# Altium integrated library Xilinx Spartan-II.IntLib: 120 symbols (part 12 of 15)
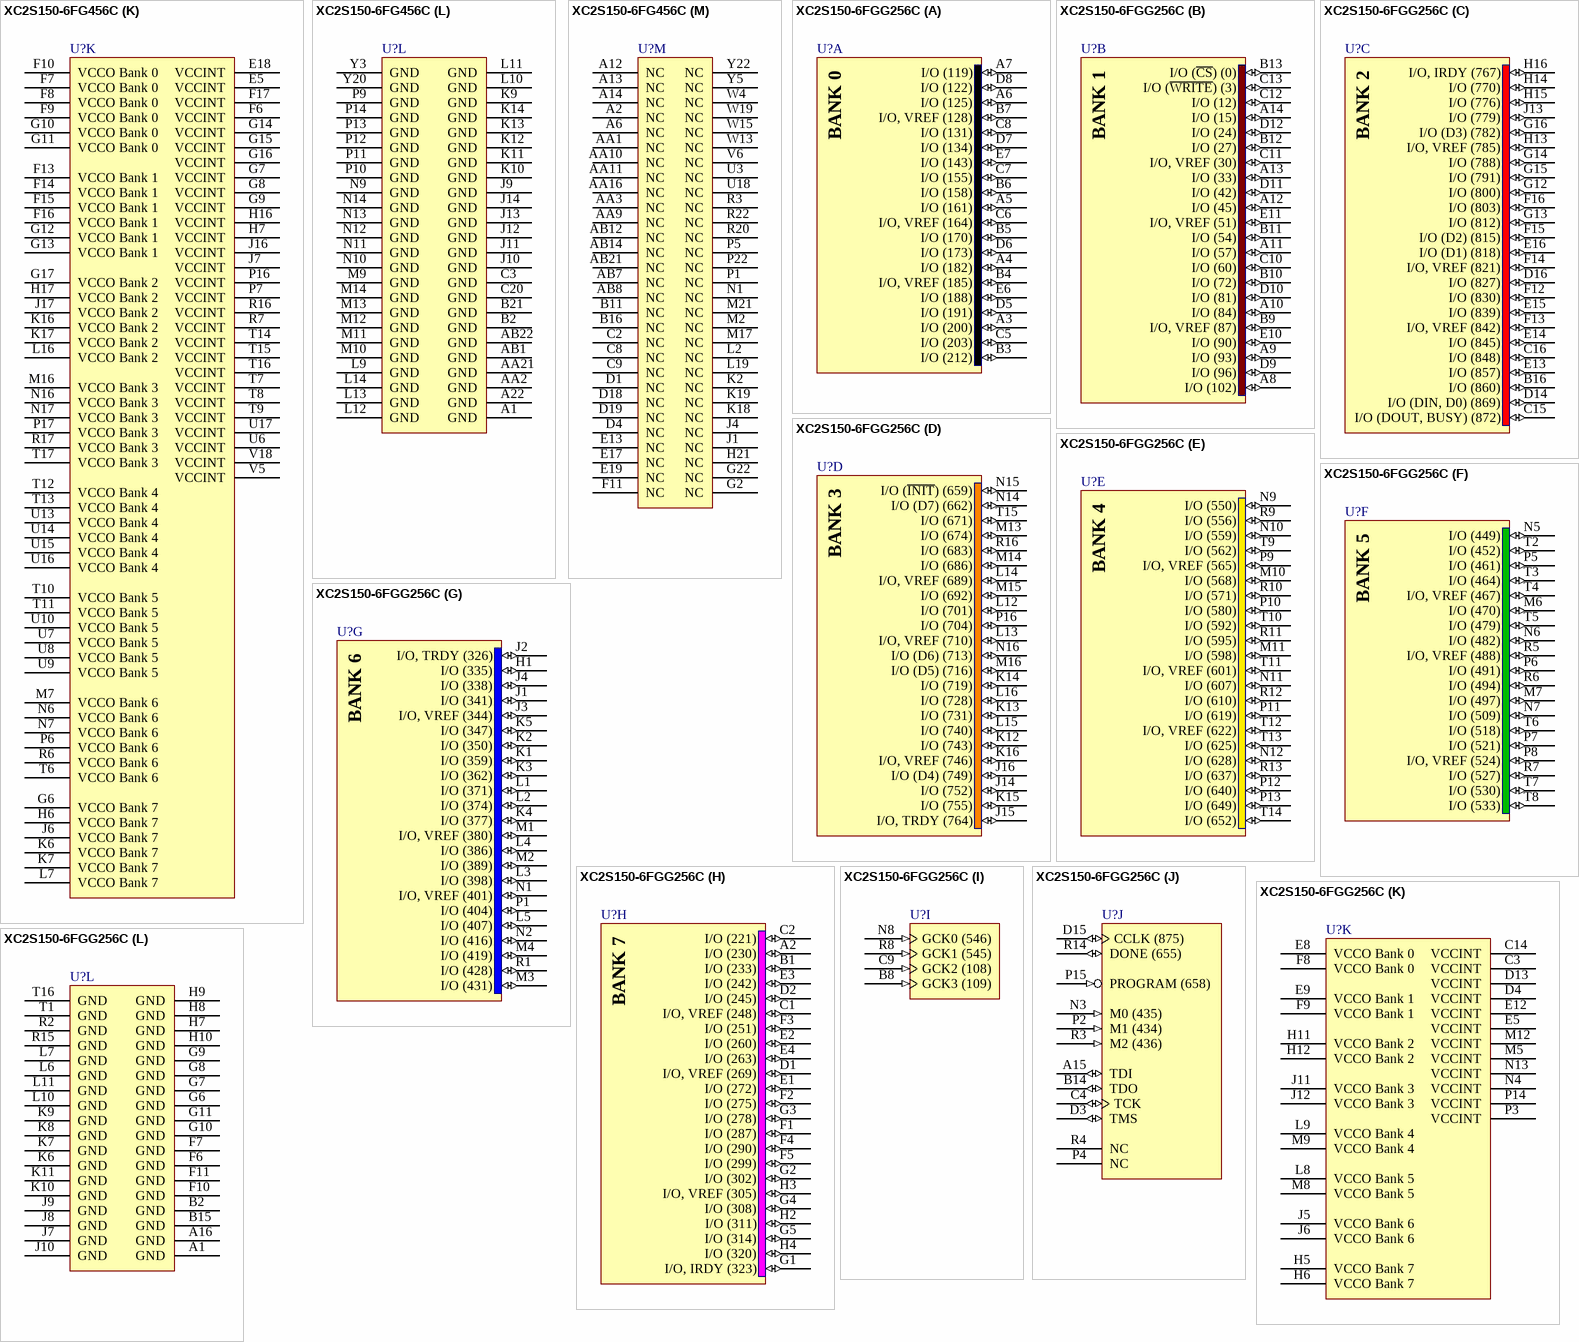
[diagram p82: symbols XC2S150-6FG456C to XC2S150-6FGG256C]

## XC2S150-6FG456C
designator U?
Spartan-II 2.5V FPGA, 260 User I/Os, 456-Ball FBGA, Higher Performance, Commercial Grade; Published: 13-Jul-2001; LatestRevisionDate: 16-Nov-2009; LatestRevisionNote: Updated to datasheet version 2.8 Jun-2008.; DatasheetVersion: ver2.8, Jun-2008; PackageVersion: ver1.2.1, Mar-2005; PackageReference: FG456; Publisher: Altium Limited; PackageDescription: 456-Ball Fine Pitch Ball Grid Array (FG456); Supplier 1: Digi-Key; Supplier Part Number 1: XC2S150-6FG456C-ND; Supplier 2: Newark; Supplier Part Number 2: 57K6675; Code_JEDEC: MO-151-AAJ-1 (Depopulated); ComponentLink1Description: Spartan-II Datasheet; ComponentLink1URL: http://www.xilinx.com/support/documentation/data_sheets/ds001.pdf; ComponentLink2Description: FG456 Package Drawing; ComponentLink2URL: http://www.xilinx.com/support/documentation/package_specs/fg456.pdf; ComponentLink3Description: Spartan-II Documents; ComponentLink3URL: http://www.xilinx.com/support/documentation/spartan-ii.htm; ComponentLink4Description: Xilinx.com Home; ComponentLink4URL: http://www.xilinx.com
footprint FG456 (BGA, 456-Leads, Body 23x23mm, Pitch 1mm)
signal-integrity model XC2S150_FG456 (Spartan-II)
part A pins: A3 I/O (203) (io), A4 I/O (194) (io), A5 I/O (179) (io), A7 I/O (158) (io), A8 I/O (143) (io), A9 I/O, VREF (128) (io), A10 I/O (119) (io), B3 I/O (206) (io), B4 I/O (200) (io), B5 I/O (188) (io), B6 I/O (176) (io), B7 I/O (161) (io), B8 I/O (149) (io), B9 I/O (131) (io), B10 I/O (122) (io), C5 I/O (212) (io), C6 I/O, VREF (185) (io), C7 I/O (170) (io), C10 I/O (125) (io), D5 I/O (209) (io), D6 I/O (182) (io), D7 I/O (173) (io), D8 I/O (167) (io), D9 I/O (146) (io), D10 I/O (140) (io), E6 I/O (197) (io), E7 I/O (191) (io), E8 I/O, VREF (164) (io), E9 I/O (155) (io), E10 I/O (134) (io), E11 I/O (116) (io)
part B pins: A15 I/O (66) (io), A16 I/O (54) (io), A17 I/O (39) (io), A18 I/O, VREF (30) (io), A19 I/O (15) (io), A20 I/O (~{WRITE}) (3) (io), B12 I/O (93) (io), B13 I/O, VREF (87) (io), B14 I/O (75) (io), B15 I/O (60) (io), B17 I/O (33) (io), B18 I/O (18) (io), B19 I/O (6) (io), C12 I/O (99) (io), C13 I/O (84) (io), C14 I/O (72) (io), C15 I/O (57) (io), C16 I/O (45) (io), C17 I/O (24) (io), C18 I/O (9) (io), C19 I/O (~{CS}) (0) (io), D11 I/O (102) (io), D12 I/O (96) (io), D13 I/O (81) (io), D14 I/O (48) (io), D15 I/O (42) (io), D16 I/O (27) (io), D17 I/O (12) (io), E12 I/O (90) (io), E14 I/O, VREF (51) (io), E15 I/O (36) (io), E16 I/O (21) (io), F12 I/O (69) (io)
part C pins: C21 I/O (DOUT, BUSY) (872) (io), C22 I/O (866) (io), D20 I/O (DIN, D0) (869) (io), D21 I/O (863) (io), D22 I/O (857) (io), E20 I/O (860) (io), E21 I/O (854) (io), E22 I/O (851) (io), F18 I/O (848) (io), F19 I/O (839) (io), F20 I/O (845) (io), F21 I/O, VREF (842) (io), F22 I/O (836) (io), G18 I/O (827) (io), G19 I/O (833) (io), G20 I/O (830) (io), G21 I/O (824) (io), H18 I/O, VREF (821) (io), H19 I/O (812) (io), H20 I/O (D2) (815) (io), H22 I/O (D1) (818) (io), J18 I/O (800) (io), J19 I/O (806) (io), J20 I/O (797) (io), J21 I/O (791) (io), J22 I/O (803) (io), K20 I/O (D3) (782) (io), K21 I/O, VREF (785) (io), K22 I/O (788) (io), L17 I/O (770) (io), L18 I/O (773) (io), L20 I/O, IRDY (767) (io), L21 I/O (776) (io), L22 I/O (779) (io)
part D pins: AA22 I/O (668) (io), M18 I/O (758) (io), M19 I/O (752) (io), M20 I/O (755) (io), M22 I/O, TRDY (764) (io), N18 I/O (740) (io), N19 I/O (734) (io), N20 I/O (743) (io), N21 I/O, VREF (746) (io), N22 I/O (D4) (749) (io), P18 I/O (719) (io), P19 I/O (725) (io), P20 I/O (728) (io), P21 I/O (731) (io), R18 I/O (704) (io), R19 I/O, VREF (710) (io), R21 I/O (D5) (716) (io), T18 I/O (683) (io), T19 I/O (695) (io), T20 I/O (692) (io), T21 I/O (701) (io), T22 I/O (D6) (713) (io), U19 I/O (677) (io), U20 I/O (674) (io), U21 I/O, VREF (689) (io), U22 I/O (707) (io), V19 I/O (~{INIT}) (659) (io), V20 I/O (665) (io), V21 I/O (680) (io), V22 I/O (698) (io), W21 I/O (671) (io), W22 I/O (686) (io), Y21 I/O (D7) (662) (io)
part E pins: AA12 I/O (559) (io), AA13 I/O, VREF (565) (io), AA14 I/O (580) (io), AA15 I/O (595) (io), AA17 I/O (613) (io), AA18 I/O (631) (io), AA19 I/O (640) (io), AA20 I/O (649) (io), AB13 I/O (562) (io), AB15 I/O (592) (io), AB16 I/O, VREF (601) (io), AB17 I/O (604) (io), AB18 I/O (619) (io), AB19 I/O, VREF (622) (io), AB20 I/O (637) (io), U12 I/O (550) (io), V12 I/O (553) (io), V13 I/O (571) (io), V14 I/O (583) (io), V15 I/O (607) (io), V16 I/O (628) (io), V17 I/O (643) (io), W14 I/O (577) (io), W16 I/O (616) (io), W17 I/O (634) (io), W18 I/O (652) (io), Y12 I/O (556) (io), Y13 I/O (568) (io), Y14 I/O (586) (io), Y15 I/O (598) (io), Y16 I/O (610) (io), Y17 I/O (625) (io), Y18 I/O (646) (io)
part F pins: AA4 I/O (455) (io), AA5 I/O, VREF (467) (io), AA6 I/O (476) (io), AA7 I/O (482) (io), AA8 I/O (494) (io), AB3 I/O (446) (io), AB4 I/O (458) (io), AB5 I/O (470) (io), AB6 I/O (479) (io), AB9 I/O (506) (io), AB10 I/O (521) (io), AB11 I/O (533) (io), U11 I/O (536) (io), V7 I/O (449) (io), V8 I/O (473) (io), V9 I/O (497) (io), V10 I/O (512) (io), V11 I/O (527) (io), W5 I/O (443) (io), W6 I/O (461) (io), W7 I/O (485) (io), W8 I/O, VREF (488) (io), W9 I/O (503) (io), W10 I/O (518) (io), W11 I/O (530) (io), Y6 I/O (452) (io), Y7 I/O (464) (io), Y8 I/O (491) (io), Y9 I/O (509) (io), Y10 I/O, VREF (524) (io)
part G pins: M1 I/O, TRDY (326) (io), M3 I/O (335) (io), M4 I/O (338) (io), M5 I/O (341) (io), M6 I/O (332) (io), N2 I/O, VREF (344) (io), N3 I/O (347) (io), N4 I/O (350) (io), N5 I/O (356) (io), P2 I/O (359) (io), P3 I/O (371) (io), P4 I/O (362) (io), R1 I/O (365) (io), R2 I/O (374) (io), R4 I/O, VREF (380) (io), R5 I/O (389) (io), T1 I/O (377) (io), T2 I/O (383) (io), T3 I/O, VREF (401) (io), T4 I/O (404) (io), T5 I/O (395) (io), U1 I/O (386) (io), U2 I/O (398) (io), U4 I/O (413) (io), V1 I/O (392) (io), V2 I/O (410) (io), V3 I/O (422) (io), V4 I/O (425) (io), W1 I/O (407) (io), W2 I/O (419) (io), W3 I/O (431) (io), Y1 I/O (416) (io), Y2 I/O (428) (io)
part H pins: B1 I/O (221) (io), C1 I/O (227) (io), D2 I/O (233) (io), E1 I/O (251) (io), E2 I/O, VREF (248) (io), E3 I/O (236) (io), E4 I/O (224) (io), F1 I/O (266) (io), F2 I/O (263) (io), F3 I/O (245) (io), F4 I/O (239) (io), F5 I/O (230) (io), G1 I/O (272) (io), G3 I/O (257) (io), G4 I/O (254) (io), G5 I/O (242) (io), H1 I/O (284) (io), H2 I/O (278) (io), H3 I/O (275) (io), H4 I/O, VREF (269) (io), H5 I/O (260) (io), J2 I/O (290) (io), J3 I/O (293) (io), J5 I/O (287) (io), K1 I/O (302) (io), K3 I/O, VREF (305) (io), K4 I/O (308) (io), K5 I/O (299) (io), L1 I/O (314) (io), L3 I/O, IRDY (323) (io), L4 I/O (320) (io), L5 I/O (317) (io), L6 I/O (311) (io)
part I pins: A11 GCK2 (108) (in), C11 GCK3 (109) (in), W12 GCK0 (546) (in), Y11 GCK1 (545) (in)
part J pins: A21 TDO (io), AB2 M0 (435) (in), B20 TDI (io), B22 CCLK (875) (io), C4 TCK (io), D3 TMS (io), U5 M1 (434) (in), W20 PROGRAM (658) (in), Y4 M2 (436) (in), Y19 DONE (655) (io)
part K pins: E5 VCCINT (power), E18 VCCINT (power), F6 VCCINT (power), F7 VCCO Bank 0 (power), F8 VCCO Bank 0 (power), F9 VCCO Bank 0 (power), F10 VCCO Bank 0 (power), F13 VCCO Bank 1 (power), F14 VCCO Bank 1 (power), F15 VCCO Bank 1 (power), F16 VCCO Bank 1 (power), F17 VCCINT (power), G6 VCCO Bank 7 (power), G7 VCCINT (power), G8 VCCINT (power), G9 VCCINT (power), G10 VCCO Bank 0 (power), G11 VCCO Bank 0 (power), G12 VCCO Bank 1 (power), G13 VCCO Bank 1 (power), G14 VCCINT (power), G15 VCCINT (power), G16 VCCINT (power), G17 VCCO Bank 2 (power), H6 VCCO Bank 7 (power), H7 VCCINT (power), H16 VCCINT (power), H17 VCCO Bank 2 (power), J6 VCCO Bank 7 (power), J7 VCCINT (power), J16 VCCINT (power), J17 VCCO Bank 2 (power), K6 VCCO Bank 7 (power), K7 VCCO Bank 7 (power), K16 VCCO Bank 2 (power), K17 VCCO Bank 2 (power), L7 VCCO Bank 7 (power), L16 VCCO Bank 2 (power), M7 VCCO Bank 6 (power), M16 VCCO Bank 3 (power), N6 VCCO Bank 6 (power), N7 VCCO Bank 6 (power), N16 VCCO Bank 3 (power), N17 VCCO Bank 3 (power), P6 VCCO Bank 6 (power), P7 VCCINT (power), P16 VCCINT (power), P17 VCCO Bank 3 (power), R6 VCCO Bank 6 (power), R7 VCCINT (power), R16 VCCINT (power), R17 VCCO Bank 3 (power), T6 VCCO Bank 6 (power), T7 VCCINT (power), T8 VCCINT (power), T9 VCCINT (power), T10 VCCO Bank 5 (power), T11 VCCO Bank 5 (power), T12 VCCO Bank 4 (power), T13 VCCO Bank 4 (power), T14 VCCINT (power), T15 VCCINT (power), T16 VCCINT (power), T17 VCCO Bank 3 (power), U6 VCCINT (power), U7 VCCO Bank 5 (power), U8 VCCO Bank 5 (power), U9 VCCO Bank 5 (power), U10 VCCO Bank 5 (power), U13 VCCO Bank 4 (power), U14 VCCO Bank 4 (power), U15 VCCO Bank 4 (power), U16 VCCO Bank 4 (power), U17 VCCINT (power), V5 VCCINT (power), V18 VCCINT (power)
part L pins: A1 GND (power), A22 GND (power), AA2 GND (power), AA21 GND (power), AB1 GND (power), AB22 GND (power), B2 GND (power), B21 GND (power), C3 GND (power), C20 GND (power), J9 GND (power), J10 GND (power), J11 GND (power), J12 GND (power), J13 GND (power), J14 GND (power), K9 GND (power), K10 GND (power), K11 GND (power), K12 GND (power), K13 GND (power), K14 GND (power), L9 GND (power), L10 GND (power), L11 GND (power), L12 GND (power), L13 GND (power), L14 GND (power), M9 GND (power), M10 GND (power), M11 GND (power), M12 GND (power), M13 GND (power), M14 GND (power), N9 GND (power), N10 GND (power), N11 GND (power), N12 GND (power), N13 GND (power), N14 GND (power), P9 GND (power), P10 GND (power), P11 GND (power), P12 GND (power), P13 GND (power), P14 GND (power), Y3 GND (power), Y20 GND (power)
part M pins: A2 NC, A6 NC, A12 NC, A13 NC, A14 NC, AA1 NC, AA3 NC, AA9 NC, AA10 NC, AA11 NC, AA16 NC, AB7 NC, AB8 NC, AB12 NC, AB14 NC, AB21 NC, B11 NC, B16 NC, C2 NC, C8 NC, C9 NC, D1 NC, D4 NC, D18 NC, D19 NC, E13 NC, E17 NC, E19 NC, F11 NC, G2 NC, G22 NC, H21 NC, J1 NC, J4 NC, K2 NC, K18 NC, K19 NC, L2 NC, L19 NC, M2 NC, M17 NC, M21 NC, N1 NC, P1 NC, P5 NC, P22 NC, R3 NC, R20 NC, R22 NC, U3 NC, U18 NC, V6 NC, W4 NC, W13 NC, W15 NC, W19 NC, Y5 NC, Y22 NC
part A text: BANK 0
part B text: BANK 1
part C text: BANK 2
part D text: BANK 3
part E text: BANK 4
part F text: BANK 5
part G text: BANK 6
part H text: BANK 7

## XC2S150-6FGG256C
designator U?
Spartan-II 2.5V FPGA, 176 User I/Os, 256-Ball FBGA, Higher Performance, Commercial Grade, Pb-Free; Published: 2-Mar-2006; LatestRevisionDate: 16-Nov-2009; LatestRevisionNote: Updated to datasheet version 2.8 Jun-2008.; DatasheetVersion: ver2.8, Jun-2008; PackageVersion: ver1.2.1, Apr-2005; PackageReference: FGG256; Publisher: Altium Limited; PackageDescription: 256-Ball Fine Pitch Ball Grid Array (FGG256) - Pb-Free; Code_JEDEC: MO-151-AAF-1; Code_IPC: BGA100P16X16-256; ComponentLink1Description: Spartan-II Datasheet; ComponentLink1URL: http://www.xilinx.com/support/documentation/data_sheets/ds001.pdf; ComponentLink2Description: FGG256 Package Drawing; ComponentLink2URL: http://www.xilinx.com/support/documentation/package_specs/fg256.pdf; ComponentLink3Description: Spartan-II Documents; ComponentLink3URL: http://www.xilinx.com/support/documentation/spartan-ii.htm; ComponentLink4Description: Xilinx.com Home; ComponentLink4URL: http://www.xilinx.com
footprint FGG256 (BGA, 256-Leads, Body 17x17mm, Pitch 1mm)
signal-integrity model XC2S150_FGG256 (Spartan-II)
part A pins: A3 I/O (200) (io), A4 I/O (182) (io), A5 I/O (161) (io), A6 I/O (125) (io), A7 I/O (119) (io), B3 I/O (212) (io), B4 I/O, VREF (185) (io), B5 I/O (170) (io), B6 I/O (158) (io), B7 I/O, VREF (128) (io), C5 I/O (203) (io), C6 I/O, VREF (164) (io), C7 I/O (155) (io), C8 I/O (131) (io), D5 I/O (191) (io), D6 I/O (173) (io), D7 I/O (134) (io), D8 I/O (122) (io), E6 I/O (188) (io), E7 I/O (143) (io)
part B pins: A8 I/O (102) (io), A9 I/O (93) (io), A10 I/O (84) (io), A11 I/O (57) (io), A12 I/O (45) (io), A13 I/O (33) (io), A14 I/O (15) (io), B9 I/O, VREF (87) (io), B10 I/O (72) (io), B11 I/O (54) (io), B12 I/O (27) (io), B13 I/O (~{CS}) (0) (io), C10 I/O (60) (io), C11 I/O, VREF (30) (io), C12 I/O (12) (io), C13 I/O (~{WRITE}) (3) (io), D9 I/O (96) (io), D10 I/O (81) (io), D11 I/O (42) (io), D12 I/O (24) (io), E10 I/O (90) (io), E11 I/O, VREF (51) (io)
part C pins: B16 I/O (860) (io), C15 I/O (DOUT, BUSY) (872) (io), C16 I/O (848) (io), D14 I/O (DIN, D0) (869) (io), D16 I/O (827) (io), E13 I/O (857) (io), E14 I/O (845) (io), E15 I/O (839) (io), E16 I/O (D1) (818) (io), F12 I/O (830) (io), F13 I/O, VREF (842) (io), F14 I/O, VREF (821) (io), F15 I/O (D2) (815) (io), F16 I/O (803) (io), G12 I/O (800) (io), G13 I/O (812) (io), G14 I/O (788) (io), G15 I/O (791) (io), G16 I/O (D3) (782) (io), H13 I/O, VREF (785) (io), H14 I/O (770) (io), H15 I/O (776) (io), H16 I/O, IRDY (767) (io), J13 I/O (779) (io)
part D pins: J14 I/O (752) (io), J15 I/O, TRDY (764) (io), J16 I/O (D4) (749) (io), K12 I/O (743) (io), K13 I/O (731) (io), K14 I/O (719) (io), K15 I/O (755) (io), K16 I/O, VREF (746) (io), L12 I/O (701) (io), L13 I/O, VREF (710) (io), L14 I/O, VREF (689) (io), L15 I/O (740) (io), L16 I/O (728) (io), M13 I/O (674) (io), M14 I/O (686) (io), M15 I/O (692) (io), M16 I/O (D5) (716) (io), N14 I/O (D7) (662) (io), N15 I/O (~{INIT}) (659) (io), N16 I/O (D6) (713) (io), P16 I/O (704) (io), R16 I/O (683) (io), T15 I/O (671) (io)
part E pins: M10 I/O (568) (io), M11 I/O (598) (io), N9 I/O (550) (io), N10 I/O (559) (io), N11 I/O (607) (io), N12 I/O (628) (io), P9 I/O, VREF (565) (io), P10 I/O (580) (io), P11 I/O (619) (io), P12 I/O (640) (io), P13 I/O (649) (io), R9 I/O (556) (io), R10 I/O (571) (io), R11 I/O (595) (io), R12 I/O (610) (io), R13 I/O (637) (io), T9 I/O (562) (io), T10 I/O (592) (io), T11 I/O, VREF (601) (io), T12 I/O, VREF (622) (io), T13 I/O (625) (io), T14 I/O (652) (io)
part F pins: M6 I/O (470) (io), M7 I/O (497) (io), N5 I/O (449) (io), N6 I/O (482) (io), N7 I/O (509) (io), P5 I/O (461) (io), P6 I/O (491) (io), P7 I/O (521) (io), P8 I/O, VREF (524) (io), R5 I/O, VREF (488) (io), R6 I/O (494) (io), R7 I/O (527) (io), T2 I/O (452) (io), T3 I/O (464) (io), T4 I/O, VREF (467) (io), T5 I/O (479) (io), T6 I/O (518) (io), T7 I/O (530) (io), T8 I/O (533) (io)
part G pins: H1 I/O (335) (io), J1 I/O (341) (io), J2 I/O, TRDY (326) (io), J3 I/O, VREF (344) (io), J4 I/O (338) (io), K1 I/O (359) (io), K2 I/O (350) (io), K3 I/O (362) (io), K4 I/O (377) (io), K5 I/O (347) (io), L1 I/O (371) (io), L2 I/O (374) (io), L3 I/O (398) (io), L4 I/O (386) (io), L5 I/O (407) (io), M1 I/O, VREF (380) (io), M2 I/O (389) (io), M3 I/O (431) (io), M4 I/O (419) (io), N1 I/O, VREF (401) (io), N2 I/O (416) (io), P1 I/O (404) (io), R1 I/O (428) (io)
part H pins: A2 I/O (230) (io), B1 I/O (233) (io), C1 I/O, VREF (248) (io), C2 I/O (221) (io), D1 I/O, VREF (269) (io), D2 I/O (245) (io), E1 I/O (272) (io), E2 I/O (260) (io), E3 I/O (242) (io), E4 I/O (263) (io), F1 I/O (287) (io), F2 I/O (275) (io), F3 I/O (251) (io), F4 I/O (290) (io), F5 I/O (299) (io), G1 I/O, IRDY (323) (io), G2 I/O (302) (io), G3 I/O (278) (io), G4 I/O (308) (io), G5 I/O (314) (io), H2 I/O (311) (io), H3 I/O, VREF (305) (io), H4 I/O (320) (io)
part I pins: B8 GCK3 (109) (in), C9 GCK2 (108) (in), N8 GCK0 (546) (in), R8 GCK1 (545) (in)
part J pins: A15 TDI (io), B14 TDO (io), C4 TCK (io), D3 TMS (io), D15 CCLK (875) (io), N3 M0 (435) (in), P2 M1 (434) (in), P4 NC, P15 PROGRAM (658) (in), R3 M2 (436) (in), R4 NC, R14 DONE (655) (io)
part K pins: C3 VCCINT (power), C14 VCCINT (power), D4 VCCINT (power), D13 VCCINT (power), E5 VCCINT (power), E8 VCCO Bank 0 (power), E9 VCCO Bank 1 (power), E12 VCCINT (power), F8 VCCO Bank 0 (power), F9 VCCO Bank 1 (power), H5 VCCO Bank 7 (power), H6 VCCO Bank 7 (power), H11 VCCO Bank 2 (power), H12 VCCO Bank 2 (power), J5 VCCO Bank 6 (power), J6 VCCO Bank 6 (power), J11 VCCO Bank 3 (power), J12 VCCO Bank 3 (power), L8 VCCO Bank 5 (power), L9 VCCO Bank 4 (power), M5 VCCINT (power), M8 VCCO Bank 5 (power), M9 VCCO Bank 4 (power), M12 VCCINT (power), N4 VCCINT (power), N13 VCCINT (power), P3 VCCINT (power), P14 VCCINT (power)
part L pins: A1 GND (power), A16 GND (power), B2 GND (power), B15 GND (power), F6 GND (power), F7 GND (power), F10 GND (power), F11 GND (power), G6 GND (power), G7 GND (power), G8 GND (power), G9 GND (power), G10 GND (power), G11 GND (power), H7 GND (power), H8 GND (power), H9 GND (power), H10 GND (power), J7 GND (power), J8 GND (power), J9 GND (power), J10 GND (power), K6 GND (power), K7 GND (power), K8 GND (power), K9 GND (power), K10 GND (power), K11 GND (power), L6 GND (power), L7 GND (power), L10 GND (power), L11 GND (power), R2 GND (power), R15 GND (power), T1 GND (power), T16 GND (power)
part A text: BANK 0
part B text: BANK 1
part C text: BANK 2
part D text: BANK 3
part E text: BANK 4
part F text: BANK 5
part G text: BANK 6
part H text: BANK 7

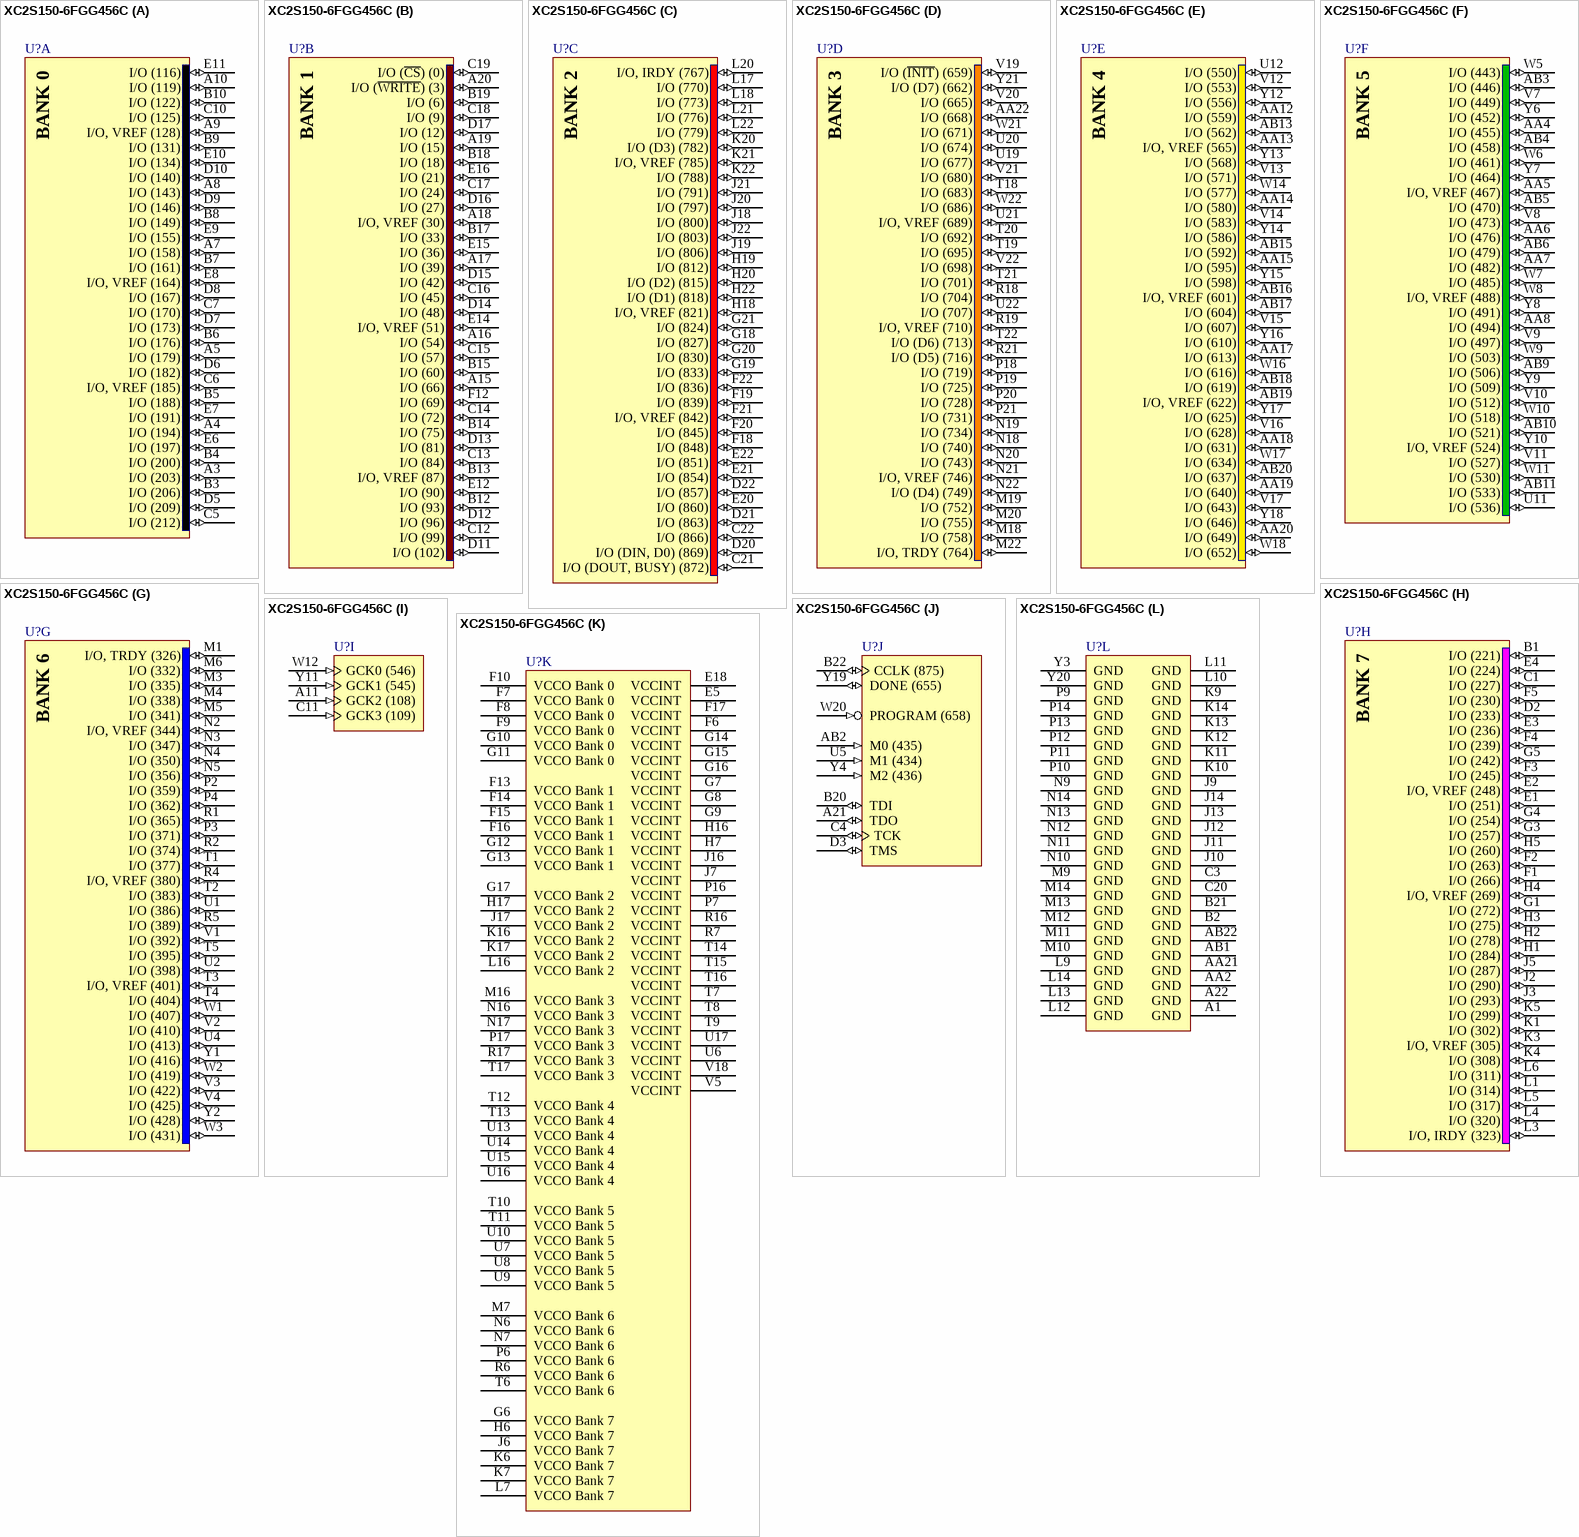
[diagram p55: symbol XC2S150-6FGG456C]

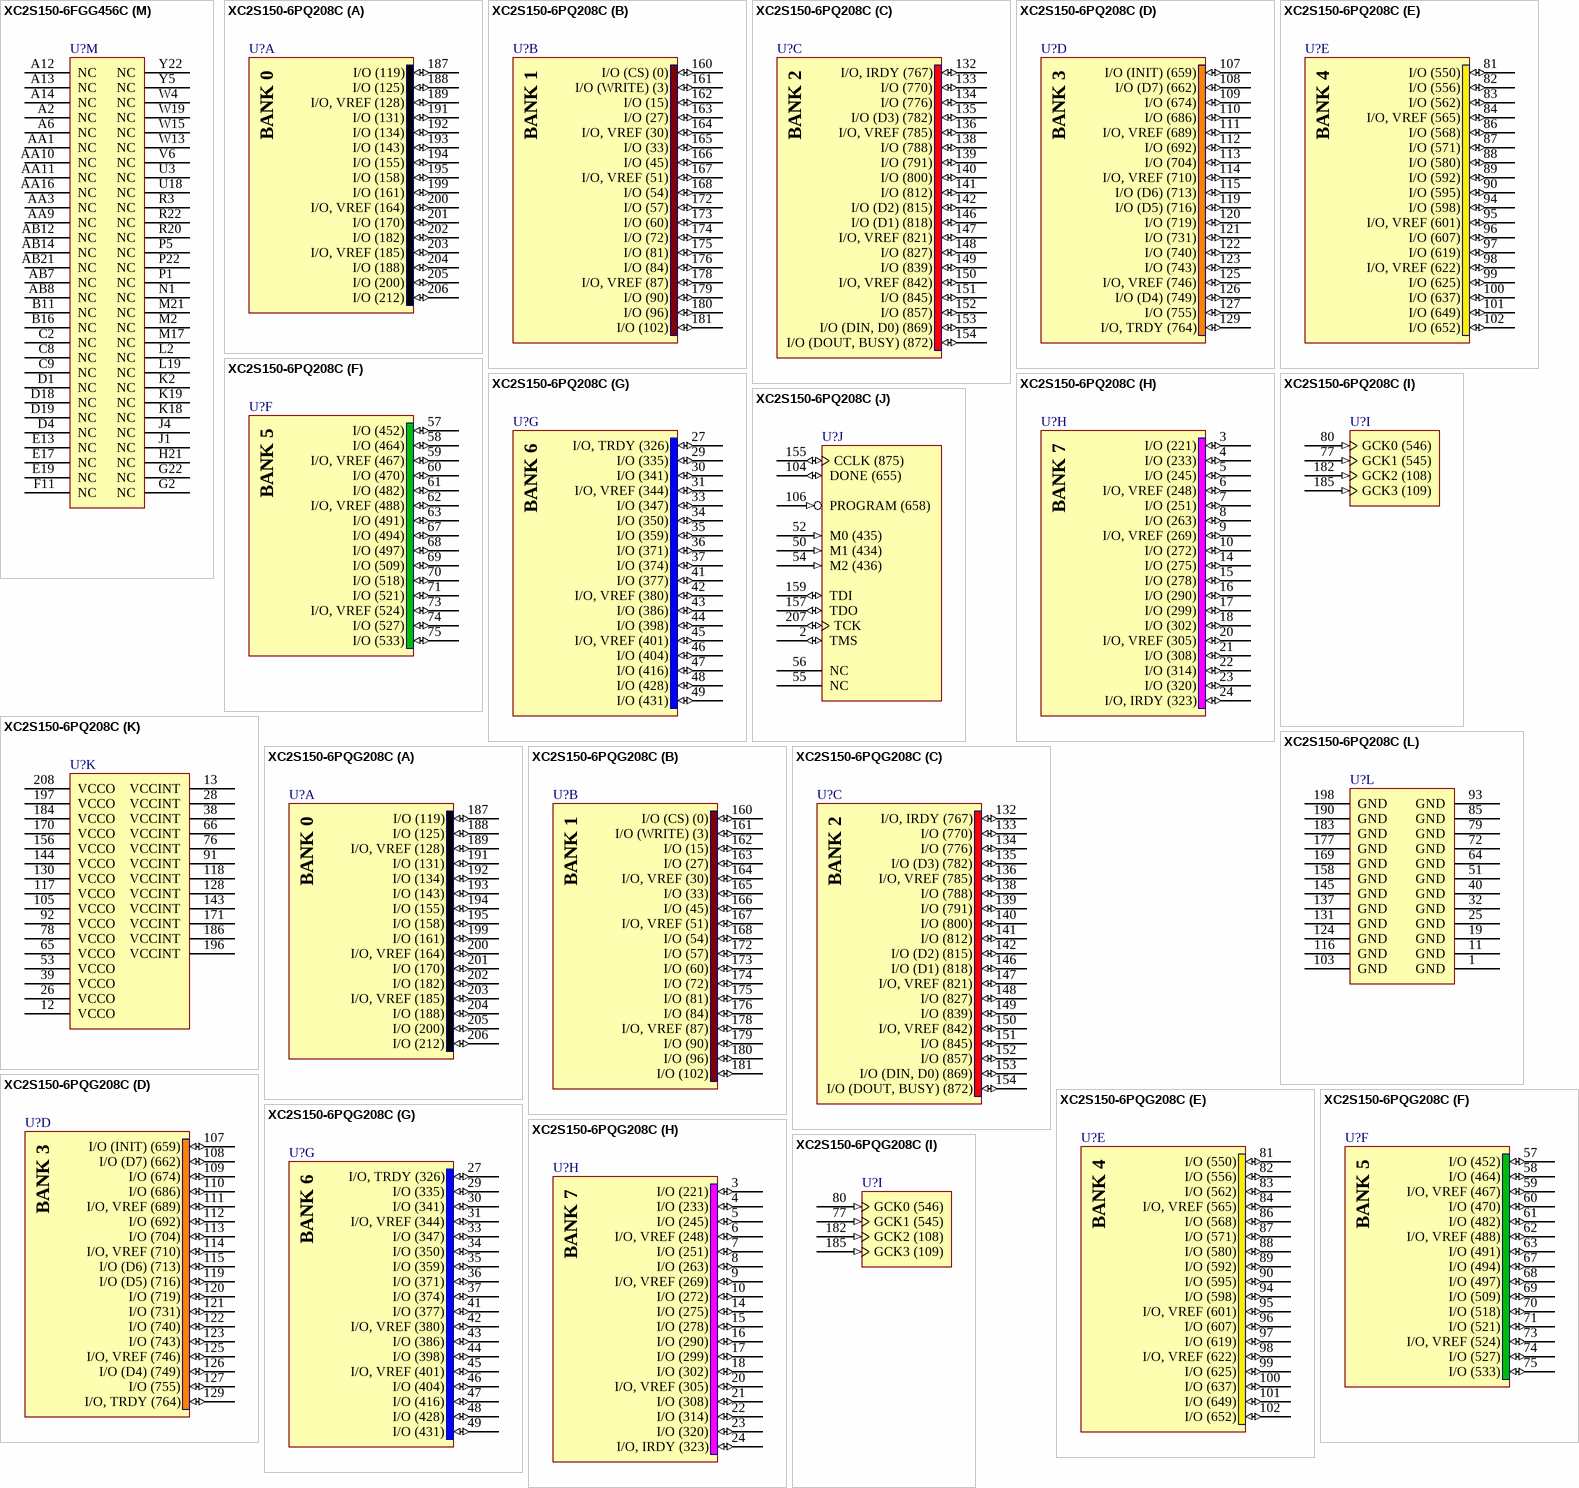
[diagram p56: symbols XC2S150-6FGG456C to XC2S150-6PQG208C]

## XC2S150-6FGG456C
designator U?
Spartan-II 2.5V FPGA, 260 User I/Os, 456-Ball FBGA, Higher Performance, Commercial Grade, Pb-Free; Published: 2-Mar-2006; LatestRevisionDate: 16-Nov-2009; LatestRevisionNote: Updated to datasheet version 2.8 Jun-2008.; DatasheetVersion: ver2.8, Jun-2008; PackageVersion: ver1.2.1, Mar-2005; PackageReference: FGG456; Publisher: Altium Limited; PackageDescription: 456-Ball Fine Pitch Ball Grid Array (FGG456) - Pb-Free; Code_JEDEC: MO-151-AAJ-1 (Depopulated); ComponentLink1Description: Spartan-II Datasheet; ComponentLink1URL: http://www.xilinx.com/support/documentation/data_sheets/ds001.pdf; ComponentLink2Description: FGG456 Package Drawing; ComponentLink2URL: http://www.xilinx.com/support/documentation/package_specs/fg456.pdf; ComponentLink3Description: Spartan-II Documents; ComponentLink3URL: http://www.xilinx.com/support/documentation/spartan-ii.htm; ComponentLink4Description: Xilinx.com Home; ComponentLink4URL: http://www.xilinx.com
footprint FGG456 (BGA, 456-Leads, Body 23x23mm, Pitch 1mm)
signal-integrity model XC2S150_FGG456 (Spartan-II)
part A pins: A3 I/O (203) (io), A4 I/O (194) (io), A5 I/O (179) (io), A7 I/O (158) (io), A8 I/O (143) (io), A9 I/O, VREF (128) (io), A10 I/O (119) (io), B3 I/O (206) (io), B4 I/O (200) (io), B5 I/O (188) (io), B6 I/O (176) (io), B7 I/O (161) (io), B8 I/O (149) (io), B9 I/O (131) (io), B10 I/O (122) (io), C5 I/O (212) (io), C6 I/O, VREF (185) (io), C7 I/O (170) (io), C10 I/O (125) (io), D5 I/O (209) (io), D6 I/O (182) (io), D7 I/O (173) (io), D8 I/O (167) (io), D9 I/O (146) (io), D10 I/O (140) (io), E6 I/O (197) (io), E7 I/O (191) (io), E8 I/O, VREF (164) (io), E9 I/O (155) (io), E10 I/O (134) (io), E11 I/O (116) (io)
part B pins: A15 I/O (66) (io), A16 I/O (54) (io), A17 I/O (39) (io), A18 I/O, VREF (30) (io), A19 I/O (15) (io), A20 I/O (~{WRITE}) (3) (io), B12 I/O (93) (io), B13 I/O, VREF (87) (io), B14 I/O (75) (io), B15 I/O (60) (io), B17 I/O (33) (io), B18 I/O (18) (io), B19 I/O (6) (io), C12 I/O (99) (io), C13 I/O (84) (io), C14 I/O (72) (io), C15 I/O (57) (io), C16 I/O (45) (io), C17 I/O (24) (io), C18 I/O (9) (io), C19 I/O (~{CS}) (0) (io), D11 I/O (102) (io), D12 I/O (96) (io), D13 I/O (81) (io), D14 I/O (48) (io), D15 I/O (42) (io), D16 I/O (27) (io), D17 I/O (12) (io), E12 I/O (90) (io), E14 I/O, VREF (51) (io), E15 I/O (36) (io), E16 I/O (21) (io), F12 I/O (69) (io)
part C pins: C21 I/O (DOUT, BUSY) (872) (io), C22 I/O (866) (io), D20 I/O (DIN, D0) (869) (io), D21 I/O (863) (io), D22 I/O (857) (io), E20 I/O (860) (io), E21 I/O (854) (io), E22 I/O (851) (io), F18 I/O (848) (io), F19 I/O (839) (io), F20 I/O (845) (io), F21 I/O, VREF (842) (io), F22 I/O (836) (io), G18 I/O (827) (io), G19 I/O (833) (io), G20 I/O (830) (io), G21 I/O (824) (io), H18 I/O, VREF (821) (io), H19 I/O (812) (io), H20 I/O (D2) (815) (io), H22 I/O (D1) (818) (io), J18 I/O (800) (io), J19 I/O (806) (io), J20 I/O (797) (io), J21 I/O (791) (io), J22 I/O (803) (io), K20 I/O (D3) (782) (io), K21 I/O, VREF (785) (io), K22 I/O (788) (io), L17 I/O (770) (io), L18 I/O (773) (io), L20 I/O, IRDY (767) (io), L21 I/O (776) (io), L22 I/O (779) (io)
part D pins: AA22 I/O (668) (io), M18 I/O (758) (io), M19 I/O (752) (io), M20 I/O (755) (io), M22 I/O, TRDY (764) (io), N18 I/O (740) (io), N19 I/O (734) (io), N20 I/O (743) (io), N21 I/O, VREF (746) (io), N22 I/O (D4) (749) (io), P18 I/O (719) (io), P19 I/O (725) (io), P20 I/O (728) (io), P21 I/O (731) (io), R18 I/O (704) (io), R19 I/O, VREF (710) (io), R21 I/O (D5) (716) (io), T18 I/O (683) (io), T19 I/O (695) (io), T20 I/O (692) (io), T21 I/O (701) (io), T22 I/O (D6) (713) (io), U19 I/O (677) (io), U20 I/O (674) (io), U21 I/O, VREF (689) (io), U22 I/O (707) (io), V19 I/O (~{INIT}) (659) (io), V20 I/O (665) (io), V21 I/O (680) (io), V22 I/O (698) (io), W21 I/O (671) (io), W22 I/O (686) (io), Y21 I/O (D7) (662) (io)
part E pins: AA12 I/O (559) (io), AA13 I/O, VREF (565) (io), AA14 I/O (580) (io), AA15 I/O (595) (io), AA17 I/O (613) (io), AA18 I/O (631) (io), AA19 I/O (640) (io), AA20 I/O (649) (io), AB13 I/O (562) (io), AB15 I/O (592) (io), AB16 I/O, VREF (601) (io), AB17 I/O (604) (io), AB18 I/O (619) (io), AB19 I/O, VREF (622) (io), AB20 I/O (637) (io), U12 I/O (550) (io), V12 I/O (553) (io), V13 I/O (571) (io), V14 I/O (583) (io), V15 I/O (607) (io), V16 I/O (628) (io), V17 I/O (643) (io), W14 I/O (577) (io), W16 I/O (616) (io), W17 I/O (634) (io), W18 I/O (652) (io), Y12 I/O (556) (io), Y13 I/O (568) (io), Y14 I/O (586) (io), Y15 I/O (598) (io), Y16 I/O (610) (io), Y17 I/O (625) (io), Y18 I/O (646) (io)
part F pins: AA4 I/O (455) (io), AA5 I/O, VREF (467) (io), AA6 I/O (476) (io), AA7 I/O (482) (io), AA8 I/O (494) (io), AB3 I/O (446) (io), AB4 I/O (458) (io), AB5 I/O (470) (io), AB6 I/O (479) (io), AB9 I/O (506) (io), AB10 I/O (521) (io), AB11 I/O (533) (io), U11 I/O (536) (io), V7 I/O (449) (io), V8 I/O (473) (io), V9 I/O (497) (io), V10 I/O (512) (io), V11 I/O (527) (io), W5 I/O (443) (io), W6 I/O (461) (io), W7 I/O (485) (io), W8 I/O, VREF (488) (io), W9 I/O (503) (io), W10 I/O (518) (io), W11 I/O (530) (io), Y6 I/O (452) (io), Y7 I/O (464) (io), Y8 I/O (491) (io), Y9 I/O (509) (io), Y10 I/O, VREF (524) (io)
part G pins: M1 I/O, TRDY (326) (io), M3 I/O (335) (io), M4 I/O (338) (io), M5 I/O (341) (io), M6 I/O (332) (io), N2 I/O, VREF (344) (io), N3 I/O (347) (io), N4 I/O (350) (io), N5 I/O (356) (io), P2 I/O (359) (io), P3 I/O (371) (io), P4 I/O (362) (io), R1 I/O (365) (io), R2 I/O (374) (io), R4 I/O, VREF (380) (io), R5 I/O (389) (io), T1 I/O (377) (io), T2 I/O (383) (io), T3 I/O, VREF (401) (io), T4 I/O (404) (io), T5 I/O (395) (io), U1 I/O (386) (io), U2 I/O (398) (io), U4 I/O (413) (io), V1 I/O (392) (io), V2 I/O (410) (io), V3 I/O (422) (io), V4 I/O (425) (io), W1 I/O (407) (io), W2 I/O (419) (io), W3 I/O (431) (io), Y1 I/O (416) (io), Y2 I/O (428) (io)
part H pins: B1 I/O (221) (io), C1 I/O (227) (io), D2 I/O (233) (io), E1 I/O (251) (io), E2 I/O, VREF (248) (io), E3 I/O (236) (io), E4 I/O (224) (io), F1 I/O (266) (io), F2 I/O (263) (io), F3 I/O (245) (io), F4 I/O (239) (io), F5 I/O (230) (io), G1 I/O (272) (io), G3 I/O (257) (io), G4 I/O (254) (io), G5 I/O (242) (io), H1 I/O (284) (io), H2 I/O (278) (io), H3 I/O (275) (io), H4 I/O, VREF (269) (io), H5 I/O (260) (io), J2 I/O (290) (io), J3 I/O (293) (io), J5 I/O (287) (io), K1 I/O (302) (io), K3 I/O, VREF (305) (io), K4 I/O (308) (io), K5 I/O (299) (io), L1 I/O (314) (io), L3 I/O, IRDY (323) (io), L4 I/O (320) (io), L5 I/O (317) (io), L6 I/O (311) (io)
part I pins: A11 GCK2 (108) (in), C11 GCK3 (109) (in), W12 GCK0 (546) (in), Y11 GCK1 (545) (in)
part J pins: A21 TDO (io), AB2 M0 (435) (in), B20 TDI (io), B22 CCLK (875) (io), C4 TCK (io), D3 TMS (io), U5 M1 (434) (in), W20 PROGRAM (658) (in), Y4 M2 (436) (in), Y19 DONE (655) (io)
part K pins: E5 VCCINT (power), E18 VCCINT (power), F6 VCCINT (power), F7 VCCO Bank 0 (power), F8 VCCO Bank 0 (power), F9 VCCO Bank 0 (power), F10 VCCO Bank 0 (power), F13 VCCO Bank 1 (power), F14 VCCO Bank 1 (power), F15 VCCO Bank 1 (power), F16 VCCO Bank 1 (power), F17 VCCINT (power), G6 VCCO Bank 7 (power), G7 VCCINT (power), G8 VCCINT (power), G9 VCCINT (power), G10 VCCO Bank 0 (power), G11 VCCO Bank 0 (power), G12 VCCO Bank 1 (power), G13 VCCO Bank 1 (power), G14 VCCINT (power), G15 VCCINT (power), G16 VCCINT (power), G17 VCCO Bank 2 (power), H6 VCCO Bank 7 (power), H7 VCCINT (power), H16 VCCINT (power), H17 VCCO Bank 2 (power), J6 VCCO Bank 7 (power), J7 VCCINT (power), J16 VCCINT (power), J17 VCCO Bank 2 (power), K6 VCCO Bank 7 (power), K7 VCCO Bank 7 (power), K16 VCCO Bank 2 (power), K17 VCCO Bank 2 (power), L7 VCCO Bank 7 (power), L16 VCCO Bank 2 (power), M7 VCCO Bank 6 (power), M16 VCCO Bank 3 (power), N6 VCCO Bank 6 (power), N7 VCCO Bank 6 (power), N16 VCCO Bank 3 (power), N17 VCCO Bank 3 (power), P6 VCCO Bank 6 (power), P7 VCCINT (power), P16 VCCINT (power), P17 VCCO Bank 3 (power), R6 VCCO Bank 6 (power), R7 VCCINT (power), R16 VCCINT (power), R17 VCCO Bank 3 (power), T6 VCCO Bank 6 (power), T7 VCCINT (power), T8 VCCINT (power), T9 VCCINT (power), T10 VCCO Bank 5 (power), T11 VCCO Bank 5 (power), T12 VCCO Bank 4 (power), T13 VCCO Bank 4 (power), T14 VCCINT (power), T15 VCCINT (power), T16 VCCINT (power), T17 VCCO Bank 3 (power), U6 VCCINT (power), U7 VCCO Bank 5 (power), U8 VCCO Bank 5 (power), U9 VCCO Bank 5 (power), U10 VCCO Bank 5 (power), U13 VCCO Bank 4 (power), U14 VCCO Bank 4 (power), U15 VCCO Bank 4 (power), U16 VCCO Bank 4 (power), U17 VCCINT (power), V5 VCCINT (power), V18 VCCINT (power)
part L pins: A1 GND (power), A22 GND (power), AA2 GND (power), AA21 GND (power), AB1 GND (power), AB22 GND (power), B2 GND (power), B21 GND (power), C3 GND (power), C20 GND (power), J9 GND (power), J10 GND (power), J11 GND (power), J12 GND (power), J13 GND (power), J14 GND (power), K9 GND (power), K10 GND (power), K11 GND (power), K12 GND (power), K13 GND (power), K14 GND (power), L9 GND (power), L10 GND (power), L11 GND (power), L12 GND (power), L13 GND (power), L14 GND (power), M9 GND (power), M10 GND (power), M11 GND (power), M12 GND (power), M13 GND (power), M14 GND (power), N9 GND (power), N10 GND (power), N11 GND (power), N12 GND (power), N13 GND (power), N14 GND (power), P9 GND (power), P10 GND (power), P11 GND (power), P12 GND (power), P13 GND (power), P14 GND (power), Y3 GND (power), Y20 GND (power)
part M pins: A2 NC, A6 NC, A12 NC, A13 NC, A14 NC, AA1 NC, AA3 NC, AA9 NC, AA10 NC, AA11 NC, AA16 NC, AB7 NC, AB8 NC, AB12 NC, AB14 NC, AB21 NC, B11 NC, B16 NC, C2 NC, C8 NC, C9 NC, D1 NC, D4 NC, D18 NC, D19 NC, E13 NC, E17 NC, E19 NC, F11 NC, G2 NC, G22 NC, H21 NC, J1 NC, J4 NC, K2 NC, K18 NC, K19 NC, L2 NC, L19 NC, M2 NC, M17 NC, M21 NC, N1 NC, P1 NC, P5 NC, P22 NC, R3 NC, R20 NC, R22 NC, U3 NC, U18 NC, V6 NC, W4 NC, W13 NC, W15 NC, W19 NC, Y5 NC, Y22 NC
part A text: BANK 0
part B text: BANK 1
part C text: BANK 2
part D text: BANK 3
part E text: BANK 4
part F text: BANK 5
part G text: BANK 6
part H text: BANK 7

## XC2S150-6PQ208C
designator U?
Spartan-II 2.5V FPGA, 140 User I/Os, 208-Pin PQFP, Higher Performance, Commercial Grade; Published: 13-Jul-2001; LatestRevisionDate: 16-Nov-2009; LatestRevisionNote: Updated to datasheet version 2.8 Jun-2008.; DatasheetVersion: ver2.8, Jun-2008; PackageVersion: ver1.2, Jun-2004; PackageReference: PQ208; Publisher: Altium Limited; PackageDescription: 208-Pin Plastic Quad Flat Pack (PQ208); Supplier 1: Digi-Key; Supplier Part Number 1: XC2S150-6PQ208C-ND; Supplier 2: Newark; Supplier Part Number 2: 59K9387; Code_JEDEC: MS-029-FA-1; ComponentLink1Description: Spartan-II Datasheet; ComponentLink1URL: http://www.xilinx.com/support/documentation/data_sheets/ds001.pdf; ComponentLink2Description: PQ208 Package Drawing; ComponentLink2URL: http://www.xilinx.com/support/documentation/package_specs/pq208.pdf; ComponentLink3Description: Spartan-II Documents; ComponentLink3URL: http://www.xilinx.com/support/documentation/spartan-ii.htm; ComponentLink4Description: Xilinx.com Home; ComponentLink4URL: http://www.xilinx.com
footprint PQ208_N (Shrink QFP, 208-Leads, Body 28x28mm, Pitch 0.5mm, IPC Medium Density)
footprint PQ208_L (Shrink QFP, 208-Leads, Body 28x28mm, Pitch 0.5mm, IPC High Density)
footprint PQ208_M (Shrink QFP, 208-Leads, Body 28x28mm, Pitch 0.5mm, IPC Low Density)
signal-integrity model XC2S150_PQ208 (Spartan-II)
part A pins: 187 I/O (119) (io), 188 I/O (125) (io), 189 I/O, VREF (128) (io), 191 I/O (131) (io), 192 I/O (134) (io), 193 I/O (143) (io), 194 I/O (155) (io), 195 I/O (158) (io), 199 I/O (161) (io), 200 I/O, VREF (164) (io), 201 I/O (170) (io), 202 I/O (182) (io), 203 I/O, VREF (185) (io), 204 I/O (188) (io), 205 I/O (200) (io), 206 I/O (212) (io)
part B pins: 160 I/O (CS) (0) (io), 161 I/O (WRITE) (3) (io), 162 I/O (15) (io), 163 I/O (27) (io), 164 I/O, VREF (30) (io), 165 I/O (33) (io), 166 I/O (45) (io), 167 I/O, VREF (51) (io), 168 I/O (54) (io), 172 I/O (57) (io), 173 I/O (60) (io), 174 I/O (72) (io), 175 I/O (81) (io), 176 I/O (84) (io), 178 I/O, VREF (87) (io), 179 I/O (90) (io), 180 I/O (96) (io), 181 I/O (102) (io)
part C pins: 132 I/O, IRDY (767) (io), 133 I/O (770) (io), 134 I/O (776) (io), 135 I/O (D3) (782) (io), 136 I/O, VREF (785) (io), 138 I/O (788) (io), 139 I/O (791) (io), 140 I/O (800) (io), 141 I/O (812) (io), 142 I/O (D2) (815) (io), 146 I/O (D1) (818) (io), 147 I/O, VREF (821) (io), 148 I/O (827) (io), 149 I/O (839) (io), 150 I/O, VREF (842) (io), 151 I/O (845) (io), 152 I/O (857) (io), 153 I/O (DIN, D0) (869) (io), 154 I/O (DOUT, BUSY) (872) (io)
part D pins: 107 I/O (INIT) (659) (io), 108 I/O (D7) (662) (io), 109 I/O (674) (io), 110 I/O (686) (io), 111 I/O, VREF (689) (io), 112 I/O (692) (io), 113 I/O (704) (io), 114 I/O, VREF (710) (io), 115 I/O (D6) (713) (io), 119 I/O (D5) (716) (io), 120 I/O (719) (io), 121 I/O (731) (io), 122 I/O (740) (io), 123 I/O (743) (io), 125 I/O, VREF (746) (io), 126 I/O (D4) (749) (io), 127 I/O (755) (io), 129 I/O, TRDY (764) (io)
part E pins: 81 I/O (550) (io), 82 I/O (556) (io), 83 I/O (562) (io), 84 I/O, VREF (565) (io), 86 I/O (568) (io), 87 I/O (571) (io), 88 I/O (580) (io), 89 I/O (592) (io), 90 I/O (595) (io), 94 I/O (598) (io), 95 I/O, VREF (601) (io), 96 I/O (607) (io), 97 I/O (619) (io), 98 I/O, VREF (622) (io), 99 I/O (625) (io), 100 I/O (637) (io), 101 I/O (649) (io), 102 I/O (652) (io)
part F pins: 57 I/O (452) (io), 58 I/O (464) (io), 59 I/O, VREF (467) (io), 60 I/O (470) (io), 61 I/O (482) (io), 62 I/O, VREF (488) (io), 63 I/O (491) (io), 67 I/O (494) (io), 68 I/O (497) (io), 69 I/O (509) (io), 70 I/O (518) (io), 71 I/O (521) (io), 73 I/O, VREF (524) (io), 74 I/O (527) (io), 75 I/O (533) (io)
part G pins: 27 I/O, TRDY (326) (io), 29 I/O (335) (io), 30 I/O (341) (io), 31 I/O, VREF (344) (io), 33 I/O (347) (io), 34 I/O (350) (io), 35 I/O (359) (io), 36 I/O (371) (io), 37 I/O (374) (io), 41 I/O (377) (io), 42 I/O, VREF (380) (io), 43 I/O (386) (io), 44 I/O (398) (io), 45 I/O, VREF (401) (io), 46 I/O (404) (io), 47 I/O (416) (io), 48 I/O (428) (io), 49 I/O (431) (io)
part H pins: 3 I/O (221) (io), 4 I/O (233) (io), 5 I/O (245) (io), 6 I/O, VREF (248) (io), 7 I/O (251) (io), 8 I/O (263) (io), 9 I/O, VREF (269) (io), 10 I/O (272) (io), 14 I/O (275) (io), 15 I/O (278) (io), 16 I/O (290) (io), 17 I/O (299) (io), 18 I/O (302) (io), 20 I/O, VREF (305) (io), 21 I/O (308) (io), 22 I/O (314) (io), 23 I/O (320) (io), 24 I/O, IRDY (323) (io)
part I pins: 77 GCK1 (545) (in), 80 GCK0 (546) (in), 182 GCK2 (108) (in), 185 GCK3 (109) (in)
part J pins: 2 TMS (io), 50 M1 (434) (in), 52 M0 (435) (in), 54 M2 (436) (in), 55 NC, 56 NC, 104 DONE (655) (io), 106 PROGRAM (658) (in), 155 CCLK (875) (io), 157 TDO (io), 159 TDI (io), 207 TCK (io)
part K pins: 12 VCCO (power), 13 VCCINT (power), 26 VCCO (power), 28 VCCINT (power), 38 VCCINT (power), 39 VCCO (power), 53 VCCO (power), 65 VCCO (power), 66 VCCINT (power), 76 VCCINT (power), 78 VCCO (power), 91 VCCINT (power), 92 VCCO (power), 105 VCCO (power), 117 VCCO (power), 118 VCCINT (power), 128 VCCINT (power), 130 VCCO (power), 143 VCCINT (power), 144 VCCO (power), 156 VCCO (power), 170 VCCO (power), 171 VCCINT (power), 184 VCCO (power), 186 VCCINT (power), 196 VCCINT (power), 197 VCCO (power), 208 VCCO (power)
part L pins: 1 GND (power), 11 GND (power), 19 GND (power), 25 GND (power), 32 GND (power), 40 GND (power), 51 GND (power), 64 GND (power), 72 GND (power), 79 GND (power), 85 GND (power), 93 GND (power), 103 GND (power), 116 GND (power), 124 GND (power), 131 GND (power), 137 GND (power), 145 GND (power), 158 GND (power), 169 GND (power), 177 GND (power), 183 GND (power), 190 GND (power), 198 GND (power)
part A text: BANK 0
part B text: BANK 1
part C text: BANK 2
part D text: BANK 3
part E text: BANK 4
part F text: BANK 5
part G text: BANK 6
part H text: BANK 7

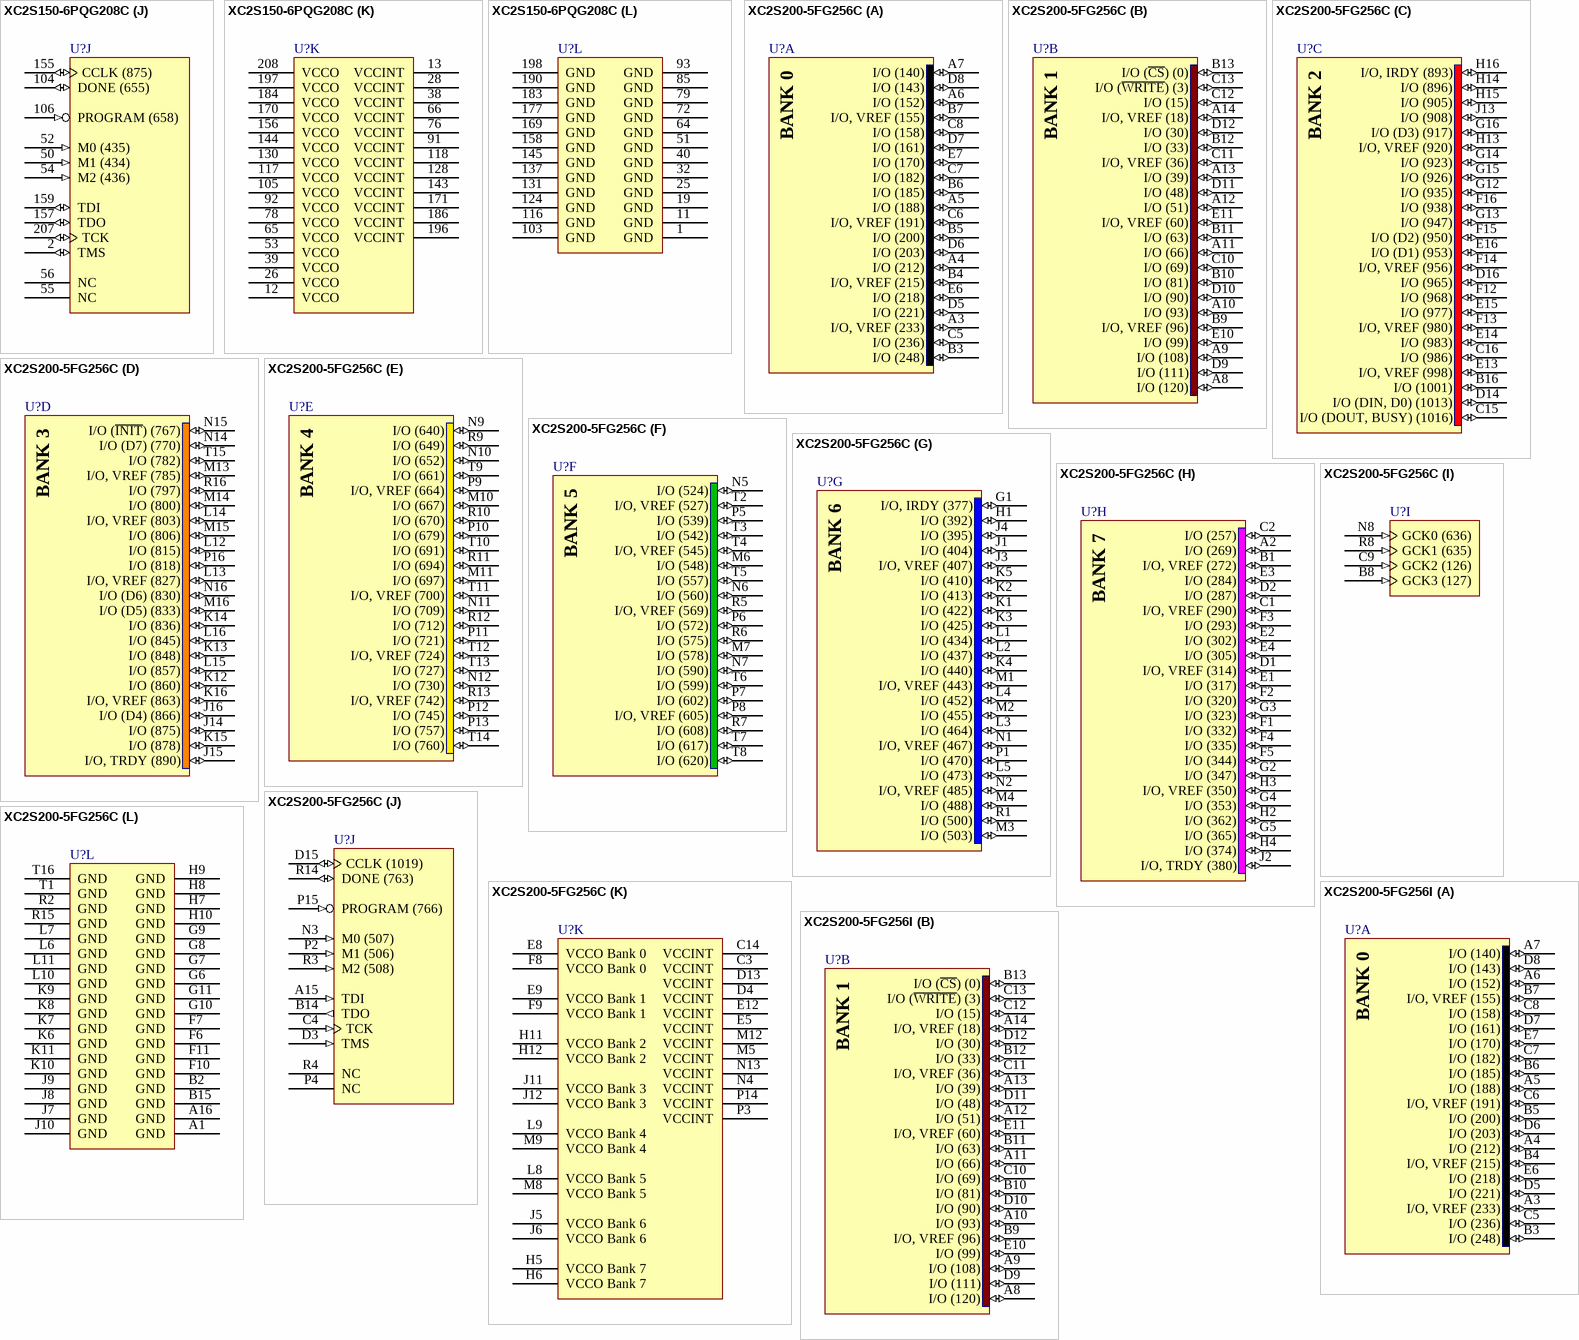
[diagram p57: symbols XC2S150-6PQG208C to XC2S200-5FG256I]

## XC2S150-6PQG208C
designator U?
Spartan-II 2.5V FPGA, 140 User I/Os, 208-Pin PQFP, Higher Performance, Commercial Grade, Pb-Free; Published: 2-Mar-2006; LatestRevisionDate: 16-Nov-2009; LatestRevisionNote: Updated to datasheet version 2.8 Jun-2008.; DatasheetVersion: ver2.8, Jun-2008; PackageVersion: ver1.2, Jun-2004; PackageReference: PQG208; Publisher: Altium Limited; PackageDescription: 208-Pin Plastic Quad Flat Pack (PQG208) - Pb-Free; Code_JEDEC: MS-029-FA-1; ComponentLink1Description: Spartan-II Datasheet; ComponentLink1URL: http://www.xilinx.com/support/documentation/data_sheets/ds001.pdf; ComponentLink2Description: PQG208 Package Drawing; ComponentLink2URL: http://www.xilinx.com/support/documentation/package_specs/pq208.pdf; ComponentLink3Description: Spartan-II Documents; ComponentLink3URL: http://www.xilinx.com/support/documentation/spartan-ii.htm; ComponentLink4Description: Xilinx.com Home; ComponentLink4URL: http://www.xilinx.com
footprint PQG208_N (Shrink QFP, 208-Leads, Body 28x28mm, Pitch 0.5mm, IPC Medium Density)
footprint PQG208_L (Shrink QFP, 208-Leads, Body 28x28mm, Pitch 0.5mm, IPC High Density)
footprint PQG208_M (Shrink QFP, 208-Leads, Body 28x28mm, Pitch 0.5mm, IPC Low Density)
signal-integrity model XC2S150_PQG208 (Spartan-II)
part A pins: 187 I/O (119) (io), 188 I/O (125) (io), 189 I/O, VREF (128) (io), 191 I/O (131) (io), 192 I/O (134) (io), 193 I/O (143) (io), 194 I/O (155) (io), 195 I/O (158) (io), 199 I/O (161) (io), 200 I/O, VREF (164) (io), 201 I/O (170) (io), 202 I/O (182) (io), 203 I/O, VREF (185) (io), 204 I/O (188) (io), 205 I/O (200) (io), 206 I/O (212) (io)
part B pins: 160 I/O (CS) (0) (io), 161 I/O (WRITE) (3) (io), 162 I/O (15) (io), 163 I/O (27) (io), 164 I/O, VREF (30) (io), 165 I/O (33) (io), 166 I/O (45) (io), 167 I/O, VREF (51) (io), 168 I/O (54) (io), 172 I/O (57) (io), 173 I/O (60) (io), 174 I/O (72) (io), 175 I/O (81) (io), 176 I/O (84) (io), 178 I/O, VREF (87) (io), 179 I/O (90) (io), 180 I/O (96) (io), 181 I/O (102) (io)
part C pins: 132 I/O, IRDY (767) (io), 133 I/O (770) (io), 134 I/O (776) (io), 135 I/O (D3) (782) (io), 136 I/O, VREF (785) (io), 138 I/O (788) (io), 139 I/O (791) (io), 140 I/O (800) (io), 141 I/O (812) (io), 142 I/O (D2) (815) (io), 146 I/O (D1) (818) (io), 147 I/O, VREF (821) (io), 148 I/O (827) (io), 149 I/O (839) (io), 150 I/O, VREF (842) (io), 151 I/O (845) (io), 152 I/O (857) (io), 153 I/O (DIN, D0) (869) (io), 154 I/O (DOUT, BUSY) (872) (io)
part D pins: 107 I/O (INIT) (659) (io), 108 I/O (D7) (662) (io), 109 I/O (674) (io), 110 I/O (686) (io), 111 I/O, VREF (689) (io), 112 I/O (692) (io), 113 I/O (704) (io), 114 I/O, VREF (710) (io), 115 I/O (D6) (713) (io), 119 I/O (D5) (716) (io), 120 I/O (719) (io), 121 I/O (731) (io), 122 I/O (740) (io), 123 I/O (743) (io), 125 I/O, VREF (746) (io), 126 I/O (D4) (749) (io), 127 I/O (755) (io), 129 I/O, TRDY (764) (io)
part E pins: 81 I/O (550) (io), 82 I/O (556) (io), 83 I/O (562) (io), 84 I/O, VREF (565) (io), 86 I/O (568) (io), 87 I/O (571) (io), 88 I/O (580) (io), 89 I/O (592) (io), 90 I/O (595) (io), 94 I/O (598) (io), 95 I/O, VREF (601) (io), 96 I/O (607) (io), 97 I/O (619) (io), 98 I/O, VREF (622) (io), 99 I/O (625) (io), 100 I/O (637) (io), 101 I/O (649) (io), 102 I/O (652) (io)
part F pins: 57 I/O (452) (io), 58 I/O (464) (io), 59 I/O, VREF (467) (io), 60 I/O (470) (io), 61 I/O (482) (io), 62 I/O, VREF (488) (io), 63 I/O (491) (io), 67 I/O (494) (io), 68 I/O (497) (io), 69 I/O (509) (io), 70 I/O (518) (io), 71 I/O (521) (io), 73 I/O, VREF (524) (io), 74 I/O (527) (io), 75 I/O (533) (io)
part G pins: 27 I/O, TRDY (326) (io), 29 I/O (335) (io), 30 I/O (341) (io), 31 I/O, VREF (344) (io), 33 I/O (347) (io), 34 I/O (350) (io), 35 I/O (359) (io), 36 I/O (371) (io), 37 I/O (374) (io), 41 I/O (377) (io), 42 I/O, VREF (380) (io), 43 I/O (386) (io), 44 I/O (398) (io), 45 I/O, VREF (401) (io), 46 I/O (404) (io), 47 I/O (416) (io), 48 I/O (428) (io), 49 I/O (431) (io)
part H pins: 3 I/O (221) (io), 4 I/O (233) (io), 5 I/O (245) (io), 6 I/O, VREF (248) (io), 7 I/O (251) (io), 8 I/O (263) (io), 9 I/O, VREF (269) (io), 10 I/O (272) (io), 14 I/O (275) (io), 15 I/O (278) (io), 16 I/O (290) (io), 17 I/O (299) (io), 18 I/O (302) (io), 20 I/O, VREF (305) (io), 21 I/O (308) (io), 22 I/O (314) (io), 23 I/O (320) (io), 24 I/O, IRDY (323) (io)
part I pins: 77 GCK1 (545) (in), 80 GCK0 (546) (in), 182 GCK2 (108) (in), 185 GCK3 (109) (in)
part J pins: 2 TMS (io), 50 M1 (434) (in), 52 M0 (435) (in), 54 M2 (436) (in), 55 NC, 56 NC, 104 DONE (655) (io), 106 PROGRAM (658) (in), 155 CCLK (875) (io), 157 TDO (io), 159 TDI (io), 207 TCK (io)
part K pins: 12 VCCO (power), 13 VCCINT (power), 26 VCCO (power), 28 VCCINT (power), 38 VCCINT (power), 39 VCCO (power), 53 VCCO (power), 65 VCCO (power), 66 VCCINT (power), 76 VCCINT (power), 78 VCCO (power), 91 VCCINT (power), 92 VCCO (power), 105 VCCO (power), 117 VCCO (power), 118 VCCINT (power), 128 VCCINT (power), 130 VCCO (power), 143 VCCINT (power), 144 VCCO (power), 156 VCCO (power), 170 VCCO (power), 171 VCCINT (power), 184 VCCO (power), 186 VCCINT (power), 196 VCCINT (power), 197 VCCO (power), 208 VCCO (power)
part L pins: 1 GND (power), 11 GND (power), 19 GND (power), 25 GND (power), 32 GND (power), 40 GND (power), 51 GND (power), 64 GND (power), 72 GND (power), 79 GND (power), 85 GND (power), 93 GND (power), 103 GND (power), 116 GND (power), 124 GND (power), 131 GND (power), 137 GND (power), 145 GND (power), 158 GND (power), 169 GND (power), 177 GND (power), 183 GND (power), 190 GND (power), 198 GND (power)
part A text: BANK 0
part B text: BANK 1
part C text: BANK 2
part D text: BANK 3
part E text: BANK 4
part F text: BANK 5
part G text: BANK 6
part H text: BANK 7

## XC2S200-5FG256C
designator U?
Spartan-II 2.5V FPGA, 176 User I/Os, 256-Ball FBGA, Standard Performance, Commercial Grade; Published: 13-Jul-2001; LatestRevisionDate: 16-Nov-2009; LatestRevisionNote: Updated to datasheet version 2.8 Jun-2008.; DatasheetVersion: ver2.8, Jun-2008; PackageVersion: ver1.2.1, Apr-2005; PackageReference: FG256; Publisher: Altium Limited; PackageDescription: 256-Ball Fine Pitch Ball Grid Array (FG256); Supplier 1: Digi-Key; Supplier Part Number 1: XC2S200-5FG256C-ND; Code_JEDEC: MO-151-AAF-1; Code_IPC: BGA100P16X16-256; ComponentLink1Description: Spartan-II Datasheet; ComponentLink1URL: http://www.xilinx.com/support/documentation/data_sheets/ds001.pdf; ComponentLink2Description: FG256 Package Drawing; ComponentLink2URL: http://www.xilinx.com/support/documentation/package_specs/fg256.pdf; ComponentLink3Description: Spartan-II Documents; ComponentLink3URL: http://www.xilinx.com/support/documentation/spartan-ii.htm; ComponentLink4Description: Xilinx.com Home; ComponentLink4URL: http://www.xilinx.com
footprint FG256 (BGA, 256-Leads, Body 17x17mm, Pitch 1mm)
signal-integrity model XC2S200_FG256 (Spartan-II)
part A pins: A3 I/O, VREF (233) (io), A4 I/O (212) (io), A5 I/O (188) (io), A6 I/O (152) (io), A7 I/O (140) (io), B3 I/O (248) (io), B4 I/O, VREF (215) (io), B5 I/O (200) (io), B6 I/O (185) (io), B7 I/O, VREF (155) (io), C5 I/O (236) (io), C6 I/O, VREF (191) (io), C7 I/O (182) (io), C8 I/O (158) (io), D5 I/O (221) (io), D6 I/O (203) (io), D7 I/O (161) (io), D8 I/O (143) (io), E6 I/O (218) (io), E7 I/O (170) (io)
part B pins: A8 I/O (120) (io), A9 I/O (108) (io), A10 I/O (93) (io), A11 I/O (66) (io), A12 I/O (51) (io), A13 I/O (39) (io), A14 I/O, VREF (18) (io), B9 I/O, VREF (96) (io), B10 I/O (81) (io), B11 I/O (63) (io), B12 I/O (33) (io), B13 I/O (~{CS}) (0) (io), C10 I/O (69) (io), C11 I/O, VREF (36) (io), C12 I/O (15) (io), C13 I/O (~{WRITE}) (3) (io), D9 I/O (111) (io), D10 I/O (90) (io), D11 I/O (48) (io), D12 I/O (30) (io), E10 I/O (99) (io), E11 I/O, VREF (60) (io)
part C pins: B16 I/O (1001) (io), C15 I/O (DOUT, BUSY) (1016) (io), C16 I/O (986) (io), D14 I/O (DIN, D0) (1013) (io), D16 I/O (965) (io), E13 I/O, VREF (998) (io), E14 I/O (983) (io), E15 I/O (977) (io), E16 I/O (D1) (953) (io), F12 I/O (968) (io), F13 I/O, VREF (980) (io), F14 I/O, VREF (956) (io), F15 I/O (D2) (950) (io), F16 I/O (938) (io), G12 I/O (935) (io), G13 I/O (947) (io), G14 I/O (923) (io), G15 I/O (926) (io), G16 I/O (D3) (917) (io), H13 I/O, VREF (920) (io), H14 I/O (896) (io), H15 I/O (905) (io), H16 I/O, IRDY (893) (io), J13 I/O (908) (io)
part D pins: J14 I/O (875) (io), J15 I/O, TRDY (890) (io), J16 I/O (D4) (866) (io), K12 I/O (860) (io), K13 I/O (848) (io), K14 I/O (836) (io), K15 I/O (878) (io), K16 I/O, VREF (863) (io), L12 I/O (815) (io), L13 I/O, VREF (827) (io), L14 I/O, VREF (803) (io), L15 I/O (857) (io), L16 I/O (845) (io), M13 I/O, VREF (785) (io), M14 I/O (800) (io), M15 I/O (806) (io), M16 I/O (D5) (833) (io), N14 I/O (D7) (770) (io), N15 I/O (~{INIT}) (767) (io), N16 I/O (D6) (830) (io), P16 I/O (818) (io), R16 I/O (797) (io), T15 I/O (782) (io)
part E pins: M10 I/O (667) (io), M11 I/O (697) (io), N9 I/O (640) (io), N10 I/O (652) (io), N11 I/O (709) (io), N12 I/O (730) (io), P9 I/O, VREF (664) (io), P10 I/O (679) (io), P11 I/O (721) (io), P12 I/O (745) (io), P13 I/O (757) (io), R9 I/O (649) (io), R10 I/O (670) (io), R11 I/O (694) (io), R12 I/O (712) (io), R13 I/O, VREF (742) (io), T9 I/O (661) (io), T10 I/O (691) (io), T11 I/O, VREF (700) (io), T12 I/O, VREF (724) (io), T13 I/O (727) (io), T14 I/O (760) (io)
part F pins: M6 I/O (548) (io), M7 I/O (578) (io), N5 I/O (524) (io), N6 I/O (560) (io), N7 I/O (590) (io), P5 I/O (539) (io), P6 I/O (572) (io), P7 I/O (602) (io), P8 I/O, VREF (605) (io), R5 I/O, VREF (569) (io), R6 I/O (575) (io), R7 I/O (608) (io), T2 I/O, VREF (527) (io), T3 I/O (542) (io), T4 I/O, VREF (545) (io), T5 I/O (557) (io), T6 I/O (599) (io), T7 I/O (617) (io), T8 I/O (620) (io)
part G pins: G1 I/O, IRDY (377) (io), H1 I/O (392) (io), J1 I/O (404) (io), J3 I/O, VREF (407) (io), J4 I/O (395) (io), K1 I/O (422) (io), K2 I/O (413) (io), K3 I/O (425) (io), K4 I/O (440) (io), K5 I/O (410) (io), L1 I/O (434) (io), L2 I/O (437) (io), L3 I/O (464) (io), L4 I/O (452) (io), L5 I/O (473) (io), M1 I/O, VREF (443) (io), M2 I/O (455) (io), M3 I/O (503) (io), M4 I/O (488) (io), N1 I/O, VREF (467) (io), N2 I/O, VREF (485) (io), P1 I/O (470) (io), R1 I/O (500) (io)
part H pins: A2 I/O (269) (io), B1 I/O, VREF (272) (io), C1 I/O, VREF (290) (io), C2 I/O (257) (io), D1 I/O, VREF (314) (io), D2 I/O (287) (io), E1 I/O (317) (io), E2 I/O (302) (io), E3 I/O (284) (io), E4 I/O (305) (io), F1 I/O (332) (io), F2 I/O (320) (io), F3 I/O (293) (io), F4 I/O (335) (io), F5 I/O (344) (io), G2 I/O (347) (io), G3 I/O (323) (io), G4 I/O (353) (io), G5 I/O (365) (io), H2 I/O (362) (io), H3 I/O, VREF (350) (io), H4 I/O (374) (io), J2 I/O, TRDY (380) (io)
part I pins: B8 GCK3 (127) (in), C9 GCK2 (126) (in), N8 GCK0 (636) (in), R8 GCK1 (635) (in)
part J pins: A15 TDI (in), B14 TDO (out), C4 TCK (in), D3 TMS (in), D15 CCLK (1019) (io), N3 M0 (507) (in), P2 M1 (506) (in), P4 NC, P15 PROGRAM (766) (in), R3 M2 (508) (in), R4 NC, R14 DONE (763) (io)
part K pins: C3 VCCINT (power), C14 VCCINT (power), D4 VCCINT (power), D13 VCCINT (power), E5 VCCINT (power), E8 VCCO Bank 0 (power), E9 VCCO Bank 1 (power), E12 VCCINT (power), F8 VCCO Bank 0 (power), F9 VCCO Bank 1 (power), H5 VCCO Bank 7 (power), H6 VCCO Bank 7 (power), H11 VCCO Bank 2 (power), H12 VCCO Bank 2 (power), J5 VCCO Bank 6 (power), J6 VCCO Bank 6 (power), J11 VCCO Bank 3 (power), J12 VCCO Bank 3 (power), L8 VCCO Bank 5 (power), L9 VCCO Bank 4 (power), M5 VCCINT (power), M8 VCCO Bank 5 (power), M9 VCCO Bank 4 (power), M12 VCCINT (power), N4 VCCINT (power), N13 VCCINT (power), P3 VCCINT (power), P14 VCCINT (power)
part L pins: A1 GND (power), A16 GND (power), B2 GND (power), B15 GND (power), F6 GND (power), F7 GND (power), F10 GND (power), F11 GND (power), G6 GND (power), G7 GND (power), G8 GND (power), G9 GND (power), G10 GND (power), G11 GND (power), H7 GND (power), H8 GND (power), H9 GND (power), H10 GND (power), J7 GND (power), J8 GND (power), J9 GND (power), J10 GND (power), K6 GND (power), K7 GND (power), K8 GND (power), K9 GND (power), K10 GND (power), K11 GND (power), L6 GND (power), L7 GND (power), L10 GND (power), L11 GND (power), R2 GND (power), R15 GND (power), T1 GND (power), T16 GND (power)
part A text: BANK 0
part B text: BANK 1
part C text: BANK 2
part D text: BANK 3
part E text: BANK 4
part F text: BANK 5
part G text: BANK 6
part H text: BANK 7

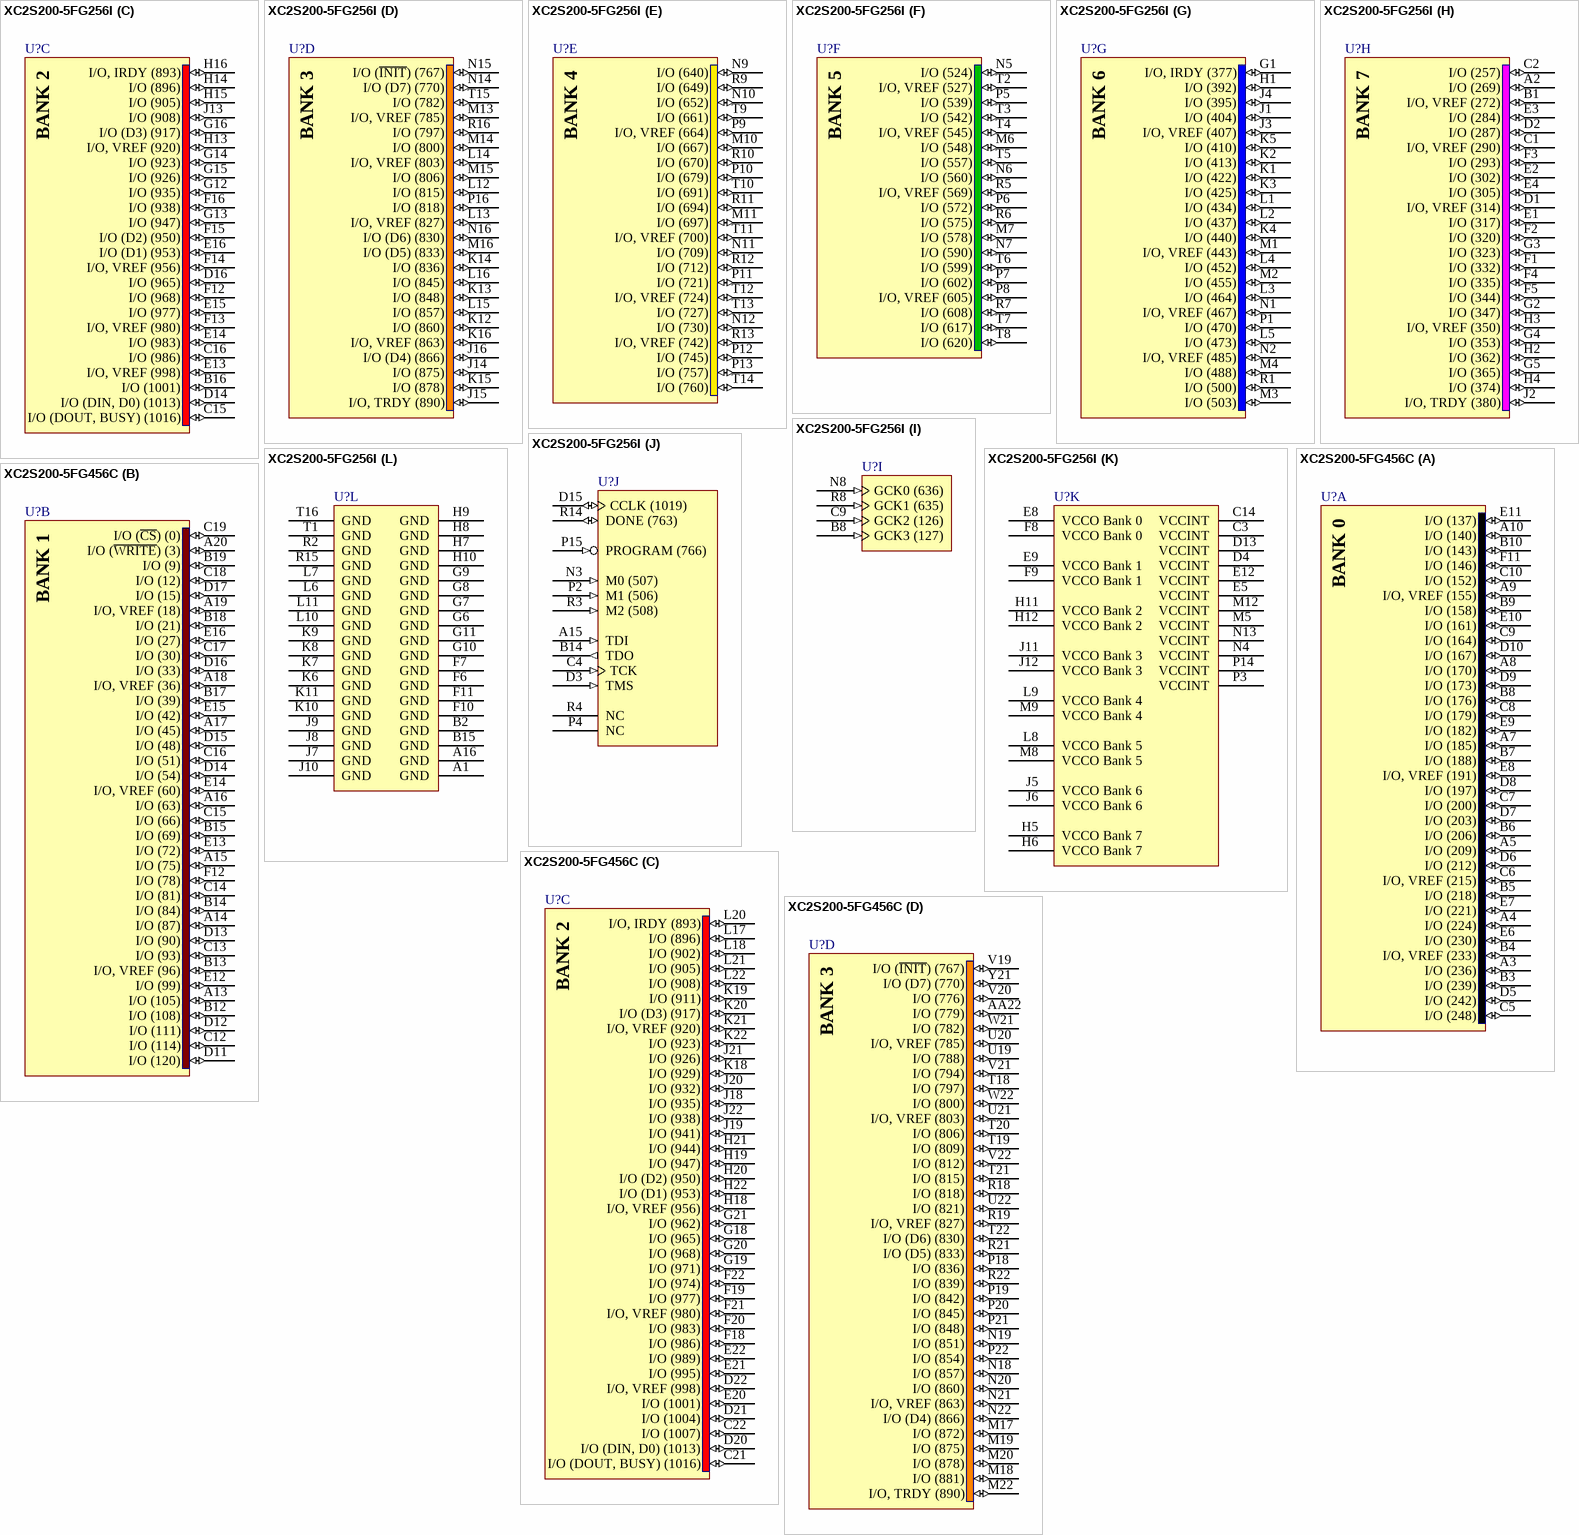
[diagram p58: symbols XC2S200-5FG256I to XC2S200-5FG456C]